# Altium footprint library SOT-23-3L.PcbLib: 1 footprints
Each footprint in its own frame and in the unit in brackets; x right, y up, seen from the top. Pads: shape width x height; smd on the part's side, far side on the other; paste and mask are expansions set on the pad; w line width, h text height; cw(c..) or ccw(c..) is an arc to the next point about the centre after c.
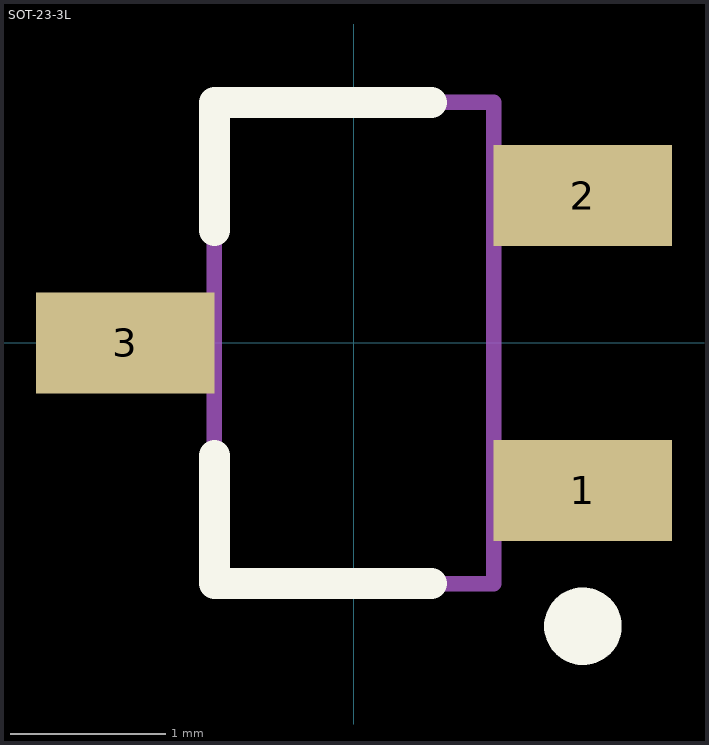
[diagram p0: the footprint, top view; thin cyan lines are the x and y axes]

## SOT-23-3L [mm] "http://www.aosmd.com/res/packaging_information/SOT-23-3L.pdf"
height 1.25
pads (3):
  rect 1.15x0.65 smd: 1(1.475,-0.95) 2(1.475,0.95) 3(-1.475,0)
Top Overlay:
  circle w0.25: c1.475,-1.825 r0.125
  lines w0.2: -0.9,-0.725 -0.9,-1.55 0.5,-1.55 ; -0.9,0.725 -0.9,1.55 0.5,1.55
Mechanical 13:
  lines w0.1: -0.9,-1.55 0.9,-1.55 0.9,1.55 -0.9,1.55 -0.9,-1.55
3D body: height 1.25, standoff 0, extent -0.9,-1.55 0.9,1.55